# Altium footprint library PcbLib1.PcbLib: 33 footprints (part 3 of 3)
Each footprint in its own frame and in the unit in brackets; x right, y up, seen from the top. Pads: shape width x height; smd on the part's side, far side on the other; paste and mask are expansions set on the pad; w line width, h text height; cw(c..) or ccw(c..) is an arc to the next point about the centre after c.
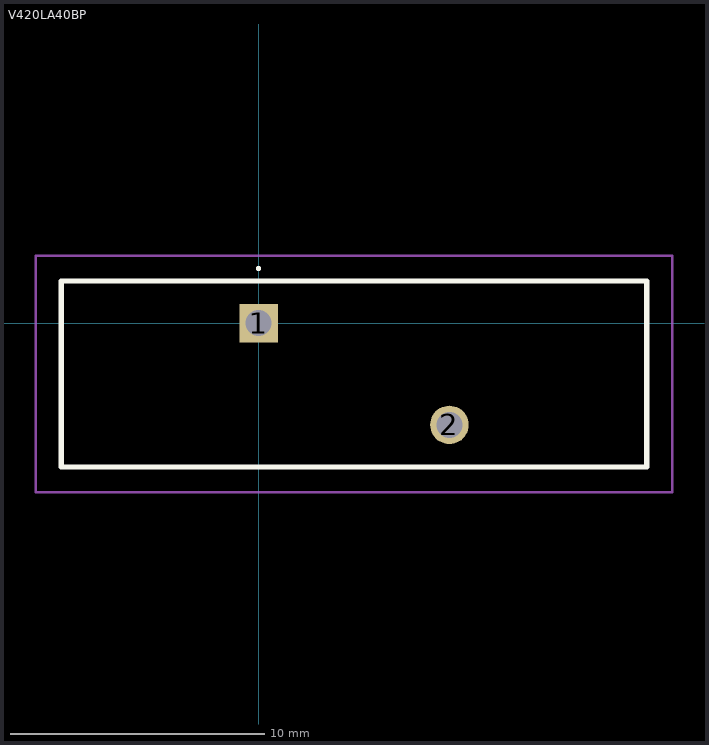
[diagram p2: the footprint, top view; thin cyan lines are the x and y axes]

## V420LA40BP [mm]
pads (2):
  rect 1.515x1.515 hole 1.01: 1(0,0)
  round 1.515 hole 1.01: 2(7.5,-4)
Top Overlay:
  lines w0.1: 0,2.1 cw(c0,2.15) 0,2.2 cw(c0,2.15) 0,2.1
  lines w0.2: -7.75,-5.65 15.25,-5.65 15.25,1.65 -7.75,1.65 -7.75,-5.65
Mechanical 15:
  lines w0.1: -7.75,-5.65 15.25,-5.65 15.25,1.65 -7.75,1.65 -7.75,-5.65
Mechanical 20:
  lines w0.1: -8.75,-6.65 16.25,-6.65 16.25,2.65 -8.75,2.65 -8.75,-6.65
3D body "V420LA40BP.stp": height 27.97, standoff -25.4, extent -7.8,-7.4 15.2,3.4